# Altium schematic symbol library 8021AH.SchLib: 1 symbol
Pins are listed as number, name and electrical type; pins without a type are passive.

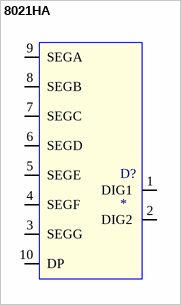
[diagram p0: symbol 8021HA]

## 8021HA
designator D?
8021AH 7 Segment Display / 1.41"x1.02x0.39 / 35.8x25.8x14mm
footprint PCBComponent_1
pins: 1 DIG1, 2 DIG2, 3 SEGG, 4 SEGF, 5 SEGE, 6 SEGD, 7 SEGC, 8 SEGB, 9 SEGA, 10 DP